# EAGLE library part TPIC6B595 (library TPIC6B595)
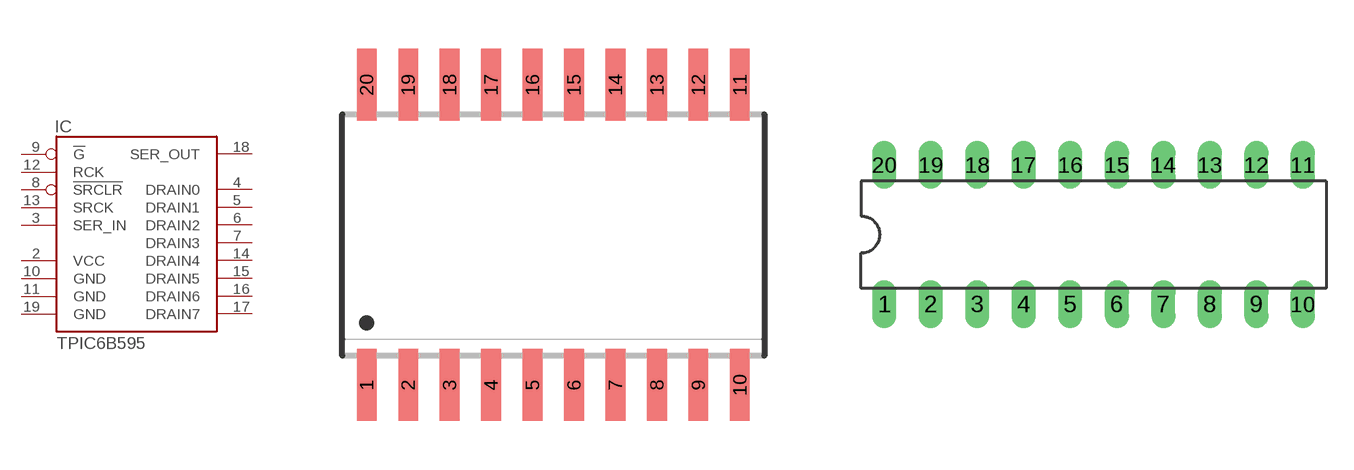
[diagram p0: symbol with the pads of SO20W; footprints SO20W, DIL20]

Designator prefix IC

## TPIC6B595DW  [SO20W]
2  VCC  pwr
3  SER_IN  in
4  DRAIN0  oc
5  DRAIN1  oc
6  DRAIN2  oc
7  DRAIN3  oc
8  !SRCLR  in
9  !G  in
10  GND  pwr
11  GND  pwr
12  RCK  in
13  SRCK  in
14  DRAIN4  oc
15  DRAIN5  oc
16  DRAIN6  oc
17  DRAIN7  oc
18  SER_OUT  out
19  GND  pwr

## TPIC6B595N  [DIL20]
Pads as for SO20W

## Footprint SO20W (pad centres in mm)
SMALL OUTLINE INTEGRATED CIRCUIT wide body 7.5 mm/JEDEC MS-013AC
smd 0.6 x 2.2: 1 -5.715,-4.6; 2 -4.445,-4.6; 3 -3.175,-4.6; 4 -1.905,-4.6; 5 -0.635,-4.6; 6 0.635,-4.6; 7 1.905,-4.6; 8 3.175,-4.6; 9 4.445,-4.6; 10 5.715,-4.6; 11 5.715,4.6; 12 4.445,4.6; 13 3.175,4.6; 14 1.905,4.6; 15 0.635,4.6; 16 -0.635,4.6; 17 -1.905,4.6; 18 -3.175,4.6; 19 -4.445,4.6; 20 -5.715,4.6

## Footprint DIL20 (pad centres in mm)
Dual In Line Package
drill 0.813 long: 1 -11.43,-3.81; 2 -8.89,-3.81; 3 -6.35,-3.81; 4 -3.81,-3.81; 5 -1.27,-3.81; 6 1.27,-3.81; 7 3.81,-3.81; 8 6.35,-3.81; 9 8.89,-3.81; 10 11.43,-3.81; 11 11.43,3.81; 12 8.89,3.81; 13 6.35,3.81; 14 3.81,3.81; 15 1.27,3.81; 16 -1.27,3.81; 17 -3.81,3.81; 18 -6.35,3.81; 19 -8.89,3.81; 20 -11.43,3.81